# Altium footprint library PcbLib1.PcbLib: 18 footprints (part 2 of 2)
Each footprint in its own frame and in the unit in brackets; x right, y up, seen from the top. Pads: shape width x height; smd on the part's side, far side on the other; paste and mask are expansions set on the pad; w line width, h text height; cw(c..) or ccw(c..) is an arc to the next point about the centre after c.
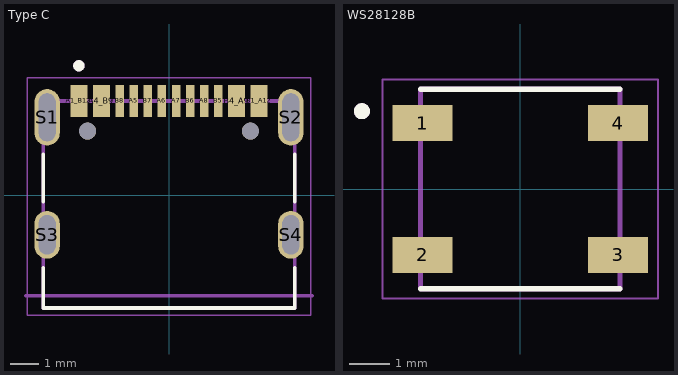
[diagram p1: the footprints below, top view; thin cyan lines are the x and y axes]

## Type C [mm]
pads (18):
  rect 0.6x1.14 smd mask+0.05: A1_B12(-3.2,3.353) A4_B9(-2.4,3.353) B1_A12(3.2,3.353) B4_A9(2.4,3.353)
  rect 0.3x1.14 smd mask+0.05: A5(-1.25,3.353) A6(-0.25,3.353) A7(0.25,3.353) A8(1.25,3.353) B5(1.75,3.353) B6(0.75,3.353) B7(-0.75,3.353) B8(-1.75,3.353)
  oval 0.9x2 hole 0.6 slot 1.7 at 90 deg: S1(-4.325,2.773) S2(4.325,2.773)
  oval 0.9x1.7 hole 0.6 slot 1.4 at 90 deg: S3(-4.325,-1.397) S4(4.325,-1.397)
  round 0.6 hole 0.6 unplated: ""(-2.89,2.283) ""(2.89,2.283)
Top Overlay:
  circle w0.2: c-3.2,4.603 r0.1
  lines w0.127: -4.47,-2.567 -4.47,-3.997 4.47,-3.997 4.47,-2.567 ; -4.47,-0.227 -4.47,1.453 ; 4.47,-0.227 4.47,1.453
Mechanical 13:
  circle w0.2: c-3.2,4.603 r0.1
  lines w0.127: -5.08,-3.556 5.08,-3.556 ; -4.47,-3.997 -4.47,3.353 4.47,3.353 4.47,-3.997 -4.47,-3.997
  text "PCB EDGE" at -2.794,-5.08 h0.61
Mechanical 15:
  lines w0.05: -5.025,-4.247 5.025,-4.247 5.025,4.173 -5.025,4.173 -5.025,-4.247
3D body "step_temp.STEP": height 3.31, standoff -0.99, extent -4.47,-3.997 4.47,3.908

## WS28128B [mm]
pads (4):
  rect 1.5x0.9 smd: 1(-2.45,1.65) 2(-2.45,-1.65) 3(2.45,-1.65) 4(2.45,1.65)
Top Overlay:
  circle w0.2: c-3.97,1.95 r0.1
  lines w0.127: -2.5,-2.5 2.5,-2.5 ; -2.5,2.5 2.5,2.5
Mechanical 13:
  circle w0.2: c-3.97,1.95 r0.1
  lines w0.127: -2.5,-2.5 -2.5,2.5 2.5,2.5 2.5,-2.5 -2.5,-2.5
Mechanical 15:
  lines w0.05: -3.45,-2.75 3.45,-2.75 3.45,2.75 -3.45,2.75 -3.45,-2.75
3D body "WS2812B.step": height 1.5, standoff -0.07, extent -2.681,-2.5 2.667,2.5